# Altium schematic symbol library LM3914N.SchLib: 1 symbol
Pins are listed as number, name and electrical type; pins without a type are passive.

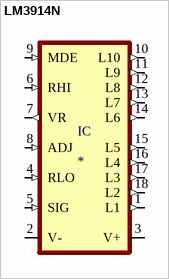
[diagram p0: symbol LM3914N]

## LM3914N
designator IC
LED Lighting Drivers; MP: LM3914N; MF: Texas Instruments; Package: None; Price: None; Availability: Unavailable; Value: *; SnapEDA_Link: https://www.snapeda.com/parts/LM3914N/Texas%20Instruments/view-part/4652973/?ref=snap
footprint DIL18
pins: 1 L1 (out), 2 V- (power), 3 V+ (power), 4 RLO (in), 5 SIG (in), 6 RHI (in), 7 VR (out), 8 ADJ (in), 9 MDE (in), 10 L10 (out), 11 L9 (out), 12 L8 (out), 13 L7 (out), 14 L6 (out), 15 L5 (out), 16 L4 (out), 17 L3 (out), 18 L2 (out)